# Altium footprint library YXG.PcbLib: 51 footprints (part 3 of 4)
Each footprint in its own frame and in the unit in brackets; x right, y up, seen from the top. Pads: shape width x height; smd on the part's side, far side on the other; paste and mask are expansions set on the pad; w line width, h text height; cw(c..) or ccw(c..) is an arc to the next point about the centre after c.
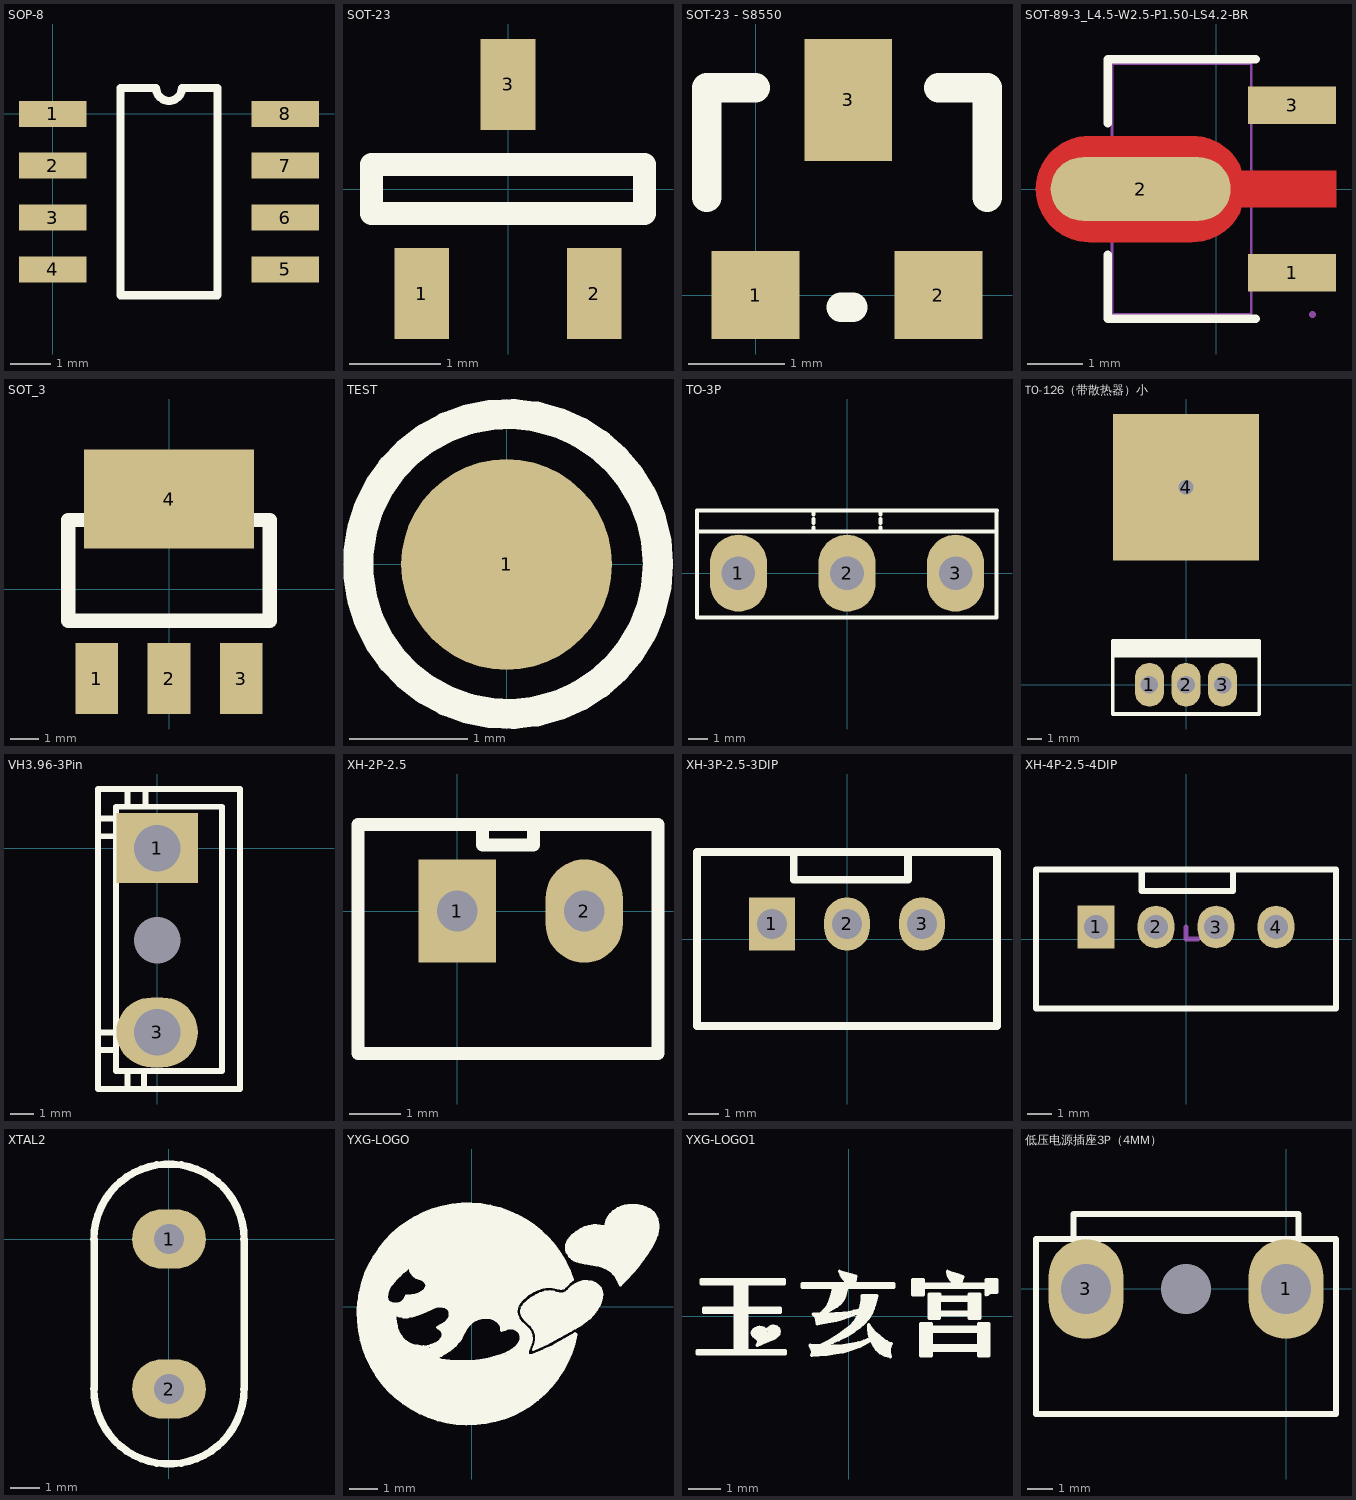
[diagram p2: the footprints below, top view; thin cyan lines are the x and y axes]

## SOP-8 [mil]
pads (8):
  rect 65x25 smd: 1(0,0) 2(0,-50) 3(0,-100) 4(0,-150) 5(224.41,-150) 6(224.41,-100) 7(224.41,-50) 8(224.41,0)
Top Overlay:
  lines w7.87: 65.37,-175 65.37,25 99.7,25 ccw(c112.2,25) 124.7,25 159.04,25 159.04,-175 65.37,-175

## SOT-23 [mm]
height 1.1
pads (3):
  rect 0.6x1 smd: 1(-0.95,-1.15) 2(0.95,-1.15) 3(0,1.15)
Top Overlay:
  lines w0.254: -1.5,-0.27 1.5,-0.27 1.5,0.27 -1.5,0.27 -1.5,-0.27

## SOT-23 - S8550 [mil]
pads (3):
  rect 36x36 smd: 1(0,0) 2(75,0)
  rect 36x50 smd: 3(38,80)
Top Overlay:
  lines w12: -20,40 -20,85 0,85 ; 35,-5 40,-5 ; 75,85 95,85 95,40

## SOT-89-3_L4.5-W2.5-P1.50-LS4.2-BR [mm]
pads (3):
  rect 1.575x0.672 smd: 1(1.356,-1.5) 3(1.356,1.5)
  oval 3.226x1.14 smd: 2(-1.356,0)
Top Layer:
  region: -2.283,0.95 -0.429,0.95 -0.384,0.949 -0.34,0.946 -0.296,0.94 -0.252,0.933 -0.208,0.924 -0.165,0.912 -0.123,0.899 -0.081,0.884 -0.04,0.866 0,0.847 0.04,0.826 0.078,0.803 0.115,0.779 0.151,0.752 0.185,0.724 0.219,0.695 0.251,0.664 0.281,0.631 0.31,0.597 0.337,0.562 0.362,0.525 0.386,0.488 0.408,0.449 0.428,0.409 0.447,0.33 2.144,0.33 2.144,-0.33 0.447,-0.33 0.428,-0.409 0.408,-0.449 0.386,-0.488 0.362,-0.526 0.337,-0.562 0.31,-0.597 0.281,-0.631 0.251,-0.664 0.219,-0.695 0.185,-0.725 0.151,-0.753 0.115,-0.779 0.078,-0.804 0.04,-0.827 0,-0.848 -0.04,-0.867 -0.081,-0.884 -0.123,-0.899 -0.165,-0.913 -0.208,-0.924 -0.252,-0.934 -0.296,-0.941 -0.34,-0.946 -0.384,-0.949 -0.429,-0.95 -2.283,-0.95 -2.328,-0.949 -2.372,-0.946 -2.416,-0.941 -2.46,-0.934 -2.504,-0.924 -2.547,-0.913 -2.589,-0.899 -2.631,-0.884 -2.672,-0.867 -2.713,-0.848 -2.752,-0.827 -2.79,-0.804 -2.827,-0.779 -2.863,-0.753 -2.898,-0.725 -2.931,-0.695 -2.963,-0.664 -2.993,-0.631 -3.022,-0.597 -3.049,-0.562 -3.075,-0.526 -3.098,-0.488 -3.12,-0.449 -3.141,-0.409 -3.159,-0.369 -3.175,-0.327 -3.189,-0.285 -3.202,-0.242 -3.212,-0.199 -3.22,-0.155 -3.227,-0.111 -3.231,-0.067 -3.233,-0.022 -3.233,0.022 -3.231,0.067 -3.227,0.111 -3.22,0.155 -3.212,0.199 -3.202,0.242 -3.189,0.285 -3.175,0.327 -3.159,0.369 -3.141,0.409 -3.12,0.449 -3.098,0.488 -3.075,0.525 -3.049,0.562 -3.022,0.597 -2.993,0.631 -2.963,0.664 -2.931,0.695 -2.898,0.724 -2.863,0.752 -2.827,0.779 -2.79,0.803 -2.752,0.826 -2.713,0.847 -2.672,0.866 -2.631,0.884 -2.589,0.899 -2.547,0.912 -2.504,0.924 -2.46,0.933 -2.416,0.94 -2.372,0.946 -2.328,0.949
Top Overlay:
  lines w0.152: -1.95,-1.177 -1.95,-2.326 0.702,-2.326 ; -1.95,1.177 -1.95,2.326 0.702,2.326
Mechanical 6:
  circle w0.3: c1.715,-1.5 r0.15
Mechanical 15:
  region: 1.784,-2.25 1.784,-2.225 1.749,-2.19 1.699,-2.19 1.664,-2.225 1.664,-2.25 1.664,-2.275 1.699,-2.31 1.749,-2.31 1.784,-2.275
  region: 0.439,-0.26 1.724,-0.26 1.724,0.26 0.439,0.26 -0.136,0.863 -2,0.863 -2.471,0.288 -2.471,-0.287 -2,-0.862 -0.136,-0.862
  region: 0.624,-1.25 1.724,-1.25 1.724,-1.75 0.624,-1.75
  region: 0.624,1.75 1.724,1.75 1.724,1.25 0.624,1.25
  lines w0.051: -1.874,-2.25 -1.874,2.25 0.626,2.25 0.626,-2.25 -1.874,-2.25

## SOT_3 [mm]
pads (4):
  rect 1.5x2.5 smd: 1(-2.54,-3.151) 2(0,-3.151) 3(2.54,-3.151)
  rect 6x3.5 smd: 4(0,3.175)
Top Overlay:
  lines w0.508: -3.556,-1.119 3.556,-1.119 3.556,2.437 -3.556,2.437 -3.556,-1.119
Top Solder:
  rectangle: -3.048,1.397 3.048,4.989

## TEST [mil]
pads (1):
  round 70 smd: 1(0,0)
Top Overlay:
  circle w10: c0.46,0.16 r49.82

## TO-3P [mm]
pads (3):
  oval 2.9x3.9 hole 1.7: 1(-5.5,0) 2(0,0) 3(5.5,0)
Top Overlay:
  lines w0.2: -7.602,3.165 -7.602,2.107 -7.602,-2.24 7.582,-2.24 7.582,2.117 7.582,3.175 ; -7.6,3.175 7.6,3.175 ; -7.53,2.117 7.55,2.117 ; -1.693,2.117 -1.693,2.328 ; -1.693,2.54 -1.693,2.752 ; -1.693,2.963 -1.693,3.175 ; 1.693,2.117 1.693,2.328 ; 1.693,2.54 1.693,2.752 ; 1.693,2.963 1.693,3.175

## TO-126（带散热器）小 [mm]
pads (4):
  oval 2x3 hole 1.2: 1(-2.5,0) 2(0,0) 3(2.5,0)
  rect 10x10 hole 1: 4(0,13.513)
Top Overlay:
  lines w0.254: -5,2 5,2 ; -5,2.159 5,2.159 ; -5,2.286 5,2.286 ; -5,2.56 5,2.56 ; -5,2.794 5,2.794 ; -4.873,2.413 5,2.413 ; -5,-2 5,-2 5,3 -5,3 -5,-2

## VH3.96-3Pin [mm]
pads (3):
  rect 3.5x3 hole 2: 1(0,0)
  round 0 hole 2: 2(0,-3.96)
  oval 3.5x3 hole 2: 3(0,-7.92)
Top Overlay:
  lines w0.254: -2.54,-7.928 -1.778,-7.928 ; -2.54,0.508 -1.778,0.508 ; -2.54,1.27 -1.778,1.27 ; -2.53,-8.68 -1.768,-8.68 ; -1.275,-10.337 -1.275,-9.575 ; -1.27,1.778 -1.27,2.54 ; -0.575,-10.337 -0.575,-9.575 ; -0.508,1.778 -0.508,2.54 ; -2.54,-10.35 3.556,-10.35 3.556,2.54 0,2.54 -2.54,2.54 -2.54,-10.35 ; -1.778,-9.575 2.794,-9.575 2.794,1.778 -1.778,1.778 -1.778,-9.575

## XH-2P-2.5 [mil]
pads (2):
  rect 60x80 hole 31.5: 1(0,0)
  oval 60x80 hole 31.5: 2(98.43,0)
Top Overlay:
  lines w10: 19.69,66.93 19.69,51.18 59.06,51.18 59.06,66.93 ; -76.77,-110.24 155.51,-110.24 155.51,66.93 -76.77,66.93 -76.77,-110.24

## XH-3P-2.5-3DIP [mil]
height 90.55
pads (3):
  rect 60x70 hole 40: 1(-98.43,19.69)
  oval 60x70 hole 40: 2(0,19.69) 3(98.43,19.69)
Top Overlay:
  lines w10: -196.85,-114.17 -196.85,114.17 196.85,114.17 196.85,-114.17 -196.65,-114.17 ; -70,112.69 -70,77.69 80,77.69 80,112.69
Mechanical 15:
  lines w8: 0,0 0,28.69

## XH-4P-2.5-4DIP [mil]
height 90.55
pads (4):
  rect 60x70 hole 40: 1(-147.64,19.69)
  oval 60x70 hole 40: 2(-49.21,19.69) 3(49.21,19.68) 4(147.64,19.68)
Top Overlay:
  lines w10: -72.64,113.69 -72.64,78.69 77.36,78.69 77.36,113.69 ; -246.06,-114.17 246.06,-114.17 246.06,114.17 -246.06,114.17 -246.06,-114.17
Mechanical 15:
  lines w8: 0,20 0,0 20,0

## XTAL2 [mm]
pads (2):
  oval 2.5x2 hole 1: 1(0,0) 2(0,-5.08)
Top Overlay:
  lines w0.254: -2.54,-5.08 ccw(c0,-5.08) 2.54,-5.08 2.54,0 ccw(c0,0) -2.54,0 -2.54,-5.08

## YXG-LOGO [mm]
Top Overlay:
  drawing of 585 lines, arcs and shapes, not listed

## YXG-LOGO1 [mm]
Top Overlay:
  drawing of 394 lines, arcs and shapes, not listed

## 低压电源插座3P（4MM） [mm]
pads (3):
  oval 3x4 hole 2: 1(-0.011,-0.005) 3(-8.011,-0.005)
  round 0 on Keep-Out hole 2: 2(-4.011,-0.005)
Top Overlay:
  lines w0.254: -10.011,1.994 -10.011,-5.005 1.989,-5.005 1.989,1.995 0.489,1.995 ; -10.01,1.995 -8.511,1.995 ; -8.511,1.995 0.489,1.995 ; -8.511,1.995 -8.511,2.995 0.489,2.995 0.489,1.995